# Altium footprint library Connectors - Terminal Block.PcbLib: 7 footprints
Each footprint in its own frame and in the unit in brackets; x right, y up, seen from the top. Pads: shape width x height; smd on the part's side, far side on the other; paste and mask are expansions set on the pad; w line width, h text height; cw(c..) or ccw(c..) is an arc to the next point about the centre after c.
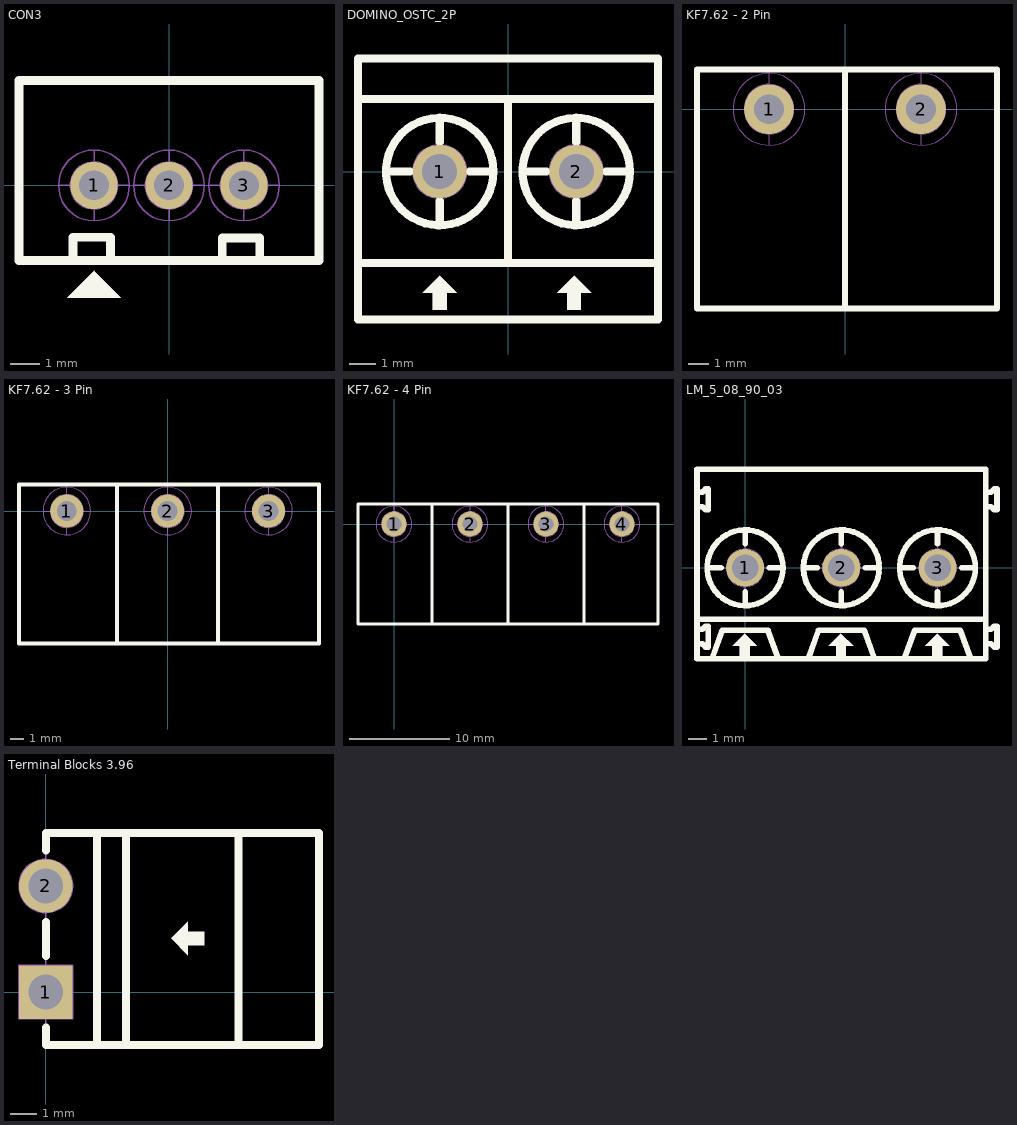
[diagram p0: the footprints below, top view; thin cyan lines are the x and y axes]

## CON3 [mm] "CON 3"
height 5.08
pads (3):
  round 1.6 hole 1 mask+0.1: 1(-2.54,0) 2(0,0) 3(2.54,0)
Top Overlay:
  region: -3.442,-3.797 -1.638,-3.797 -2.527,-2.908 -2.527,-2.883
  lines w0.3: -3.251,-2.515 -3.251,-1.753 -1.981,-1.753 -1.981,-2.515 ; 1.803,-2.54 1.803,-1.778 3.073,-1.778 3.073,-2.54 ; -5.08,-2.54 -5.08,3.556 5.08,3.556 5.08,0 5.08,-2.54 -5.08,-2.54
Top HCB:
  circle w0.05: c-2.54,0 r0.8
  circle w0.05: c-2.54,0 r1.2
  circle w0.05: c0,0 r0.8
  circle w0.05: c0,0 r1.2
  circle w0.05: c2.54,0 r0.8
  circle w0.05: c2.54,0 r1.2
  region: -3.442,-3.797 -1.638,-3.797 -2.527,-2.908 -2.527,-2.883
  lines w0.05: -3.74,0 -3.34,0 ; -3.251,-2.515 -3.251,-1.753 -1.981,-1.753 -1.981,-2.515 ; -2.54,-1.2 -2.54,-0.8 ; -2.54,0.8 -2.54,1.2 ; -1.74,0 -1.34,0 ; -1.2,0 -0.8,0 ; 0,-1.2 0,-0.8 ; 0,0.8 0,1.2 ; 0.8,0 1.2,0 ; 1.34,0 1.74,0 ; 1.803,-2.54 1.803,-1.778 3.073,-1.778 3.073,-2.54 ; 2.54,-1.2 2.54,-0.8 ; 2.54,0.8 2.54,1.2 ; 3.34,0 3.74,0 ; -5.08,-2.54 5.08,-2.54 5.08,0 5.08,3.556 -5.08,3.556 -5.08,-2.54
3D body "User Library-PW10_3.step": height 7, standoff -3.3, extent -5,-2.286 5,3.414

## DOMINO_OSTC_2P [mm] "15A PIN TO PIN 5.08MM ED2609-ND"
height 13.5
pads (2):
  round 2 hole 1.3 mask+0.1: 1(-2.54,0) 2(2.54,0)
Top Overlay:
  circle w0.3: c2.54,0 r2
  circle w0.3: c-2.54,0 r2
  region: -2.54,-3.871 -1.905,-4.506 -2.286,-4.506 -2.286,-5.141 -2.794,-5.141 -2.794,-4.506 -3.175,-4.506
  region: 2.46,-3.871 3.095,-4.506 2.714,-4.506 2.714,-5.141 2.206,-5.141 2.206,-4.506 1.825,-4.506
  lines w0.3: -5.58,-5.5 -5.58,4.2 ; -5.5,-5.5 5.5,-5.5 ; -5.5,-3.4 5.5,-3.4 ; -5.5,2.7 5.5,2.7 ; -5.5,4.2 5.5,4.2 ; -4.54,0 -3.64,0 ; -2.54,-2 -2.54,-1.1 ; -2.54,1.1 -2.54,2 ; -1.44,0 -0.54,0 ; 0,-3.4 0,2.7 ; 0.54,0 1.44,0 ; 2.5,-2 2.54,-2 2.54,-1.1 ; 2.54,1.1 2.54,2 ; 3.64,0 4.54,0 ; 5.58,-5.5 5.58,4.2
Top HCB:
  circle w0.05: c2.54,0 r1
  circle w0.05: c2.54,0 r2
  circle w0.05: c2.54,0 r2
  circle w0.05: c-2.54,0 r1
  circle w0.05: c-2.54,0 r2
  circle w0.05: c-2.54,0 r2
  region: 2.46,-3.871 3.095,-4.506 2.714,-4.506 2.714,-5.141 2.206,-5.141 2.206,-4.506 1.825,-4.506
  region: -2.54,-3.871 -1.905,-4.506 -2.286,-4.506 -2.286,-5.141 -2.794,-5.141 -2.794,-4.506 -3.175,-4.506
  lines w0.05: -5.5,-3.4 5.5,-3.4 ; -5.5,2.7 5.5,2.7 ; -4.54,0 -3.54,0 ; -2.54,-2 -2.54,-1 ; -2.54,1 -2.54,2 ; 0,-3.4 0,2.7 ; 0.54,0 1.54,0 ; 2.54,-2 2.54,-1 ; 2.54,1 2.54,2 ; -5.5,-5.5 5.5,-5.5 5.5,4.1 -5.5,4.1 -5.5,-5.5 ; -1.54,0 -0.54,0 -1.54,0 ; 3.54,0 4.54,0 3.54,0
3D body "STB01.step": height 12.5, standoff -4.4, extent -5.34,-5.247 0.34,3.753
3D body "STB01.step": height 12.5, standoff -4.4, extent -0.26,-5.247 5.42,3.753

## KF7.62 - 2 Pin [mm] "Barrier Terminal Block"
height 12.4
pads (2):
  round 2.5 hole 1.5 mask+0.1: 1(-3.81,0) 2(3.81,0)
Top Overlay:
  lines w0.3: 0,-10 0,2 ; -7.42,-10 7.62,-10 7.62,2 -7.42,2 -7.42,-10
Top HCB:
  circle w0.05: c-3.81,0 r1.8
  circle w0.05: c-3.81,0 r1.25
  circle w0.05: c3.81,0 r1.8
  circle w0.05: c3.81,0 r1.25
  lines w0.05: -5.61,0 -5.06,0 ; -3.81,-1.8 -3.81,-1.25 ; -3.81,1.25 -3.81,1.8 ; -2.56,0 -2.01,0 ; 0,-10 0,2 ; 2.01,0 2.56,0 ; 3.81,-1.8 3.81,-1.25 ; 3.81,1.25 3.81,1.8 ; 5.06,0 5.61,0 ; -7.42,-10 -7.42,2 7.62,2 7.62,-10 -7.42,-10
3D body "BR-76231C-02.stp": height 10.4, standoff -4, extent -7.62,-9.8 7.62,2.7

## KF7.62 - 3 Pin [mm] "Barrier Terminal Block"
height 12.4
pads (3):
  round 2.5 hole 1.5 mask+0.1: 1(-7.62,0) 2(0,0) 3(7.62,0)
Top Overlay:
  lines w0.3: -3.81,-10 -3.81,2 ; 3.81,-10 3.81,2 ; -11.23,-10 11.43,-10 11.43,2 -11.23,2 -11.23,-10
Top HCB:
  circle w0.05: c-7.62,0 r1.8
  circle w0.05: c-7.62,0 r1.25
  circle w0.05: c0,0 r1.8
  circle w0.05: c0,0 r1.25
  circle w0.05: c7.62,0 r1.8
  circle w0.05: c7.62,0 r1.25
  lines w0.05: -9.42,0 -8.87,0 ; -7.62,-1.8 -7.62,-1.25 ; -7.62,1.25 -7.62,1.8 ; -6.37,0 -5.82,0 ; -3.81,-10 -3.81,2 ; -1.8,0 -1.25,0 ; 0,-1.8 0,-1.25 ; 0,1.25 0,1.8 ; 1.25,0 1.8,0 ; 3.81,-10 3.81,2 ; 5.82,0 6.37,0 ; 7.62,-1.8 7.62,-1.25 ; 7.62,1.25 7.62,1.8 ; 8.87,0 9.42,0 ; -11.23,-10 11.43,-10 11.43,2 -11.23,2 -11.23,-10
3D body "BR-76231C-03.stp": height 10.4, standoff -4, extent -11.43,-9.9 11.43,2.6

## KF7.62 - 4 Pin [mm] "Barrier Terminal Block"
height 12.4
pads (4):
  round 2.5 hole 1.5 mask+0.1: 1(0,0) 2(7.62,0) 3(15.24,0) 4(22.86,0)
Top Overlay:
  lines w0.3: 3.81,-10 3.81,2 ; 11.43,-10 11.43,2 ; 19.05,-10 19.05,2 ; -3.61,-10 -3.61,2 26.47,2 26.47,-10 -3.61,-10
Top HCB:
  circle w0.05: c22.86,0 r1.25
  circle w0.05: c22.86,0 r1.8
  circle w0.05: c15.24,0 r1.25
  circle w0.05: c15.24,0 r1.8
  circle w0.05: c7.62,0 r1.25
  circle w0.05: c7.62,0 r1.8
  circle w0.05: c0,0 r1.25
  circle w0.05: c0,0 r1.8
  lines w0.05: -1.8,0 -1.25,0 ; 0,-1.8 0,-1.25 ; 0,1.25 0,1.8 ; 1.25,0 1.8,0 ; 3.81,-10 3.81,2 ; 5.82,0 6.37,0 ; 7.62,-1.8 7.62,-1.25 ; 7.62,1.25 7.62,1.8 ; 8.87,0 9.42,0 ; 11.43,-10 11.43,2 ; 13.44,0 13.99,0 ; 15.24,-1.8 15.24,-1.25 ; 15.24,1.25 15.24,1.8 ; 16.49,0 17.04,0 ; 19.05,-10 19.05,2 ; 21.06,0 21.61,0 ; 22.86,-1.8 22.86,-1.25 ; 22.86,1.25 22.86,1.8 ; 24.11,0 24.66,0 ; -3.61,-10 -3.61,2 26.47,2 26.47,-10 -3.61,-10
3D body "User Library-KF7_62 - 4P-1.STEP": height 12.56, standoff -6.14, extent -3.81,-10.35 26.67,1.65

## LM_5_08_90_03 [mm] "OMNIMATE Signal - Serie LM  LM 5.08/03/90 3.5"
height 13.8
pads (3):
  round 2 hole 1.4: 1(0,0) 2(5.08,0) 3(10.16,0)
Top Overlay:
  circle w0.3: c10.16,0 r2
  circle w0.3: c5.08,0 r2
  circle w0.3: c0,0 r2
  region: -0.018,-3.483 0.617,-4.118 0.236,-4.118 0.236,-4.753 -0.272,-4.753 -0.272,-4.118 -0.653,-4.118
  region: 5.063,-3.483 5.698,-4.118 5.317,-4.118 5.317,-4.753 4.809,-4.753 4.809,-4.118 4.428,-4.118
  region: 10.142,-3.483 10.777,-4.118 10.396,-4.118 10.396,-4.753 9.888,-4.753 9.888,-4.118 9.507,-4.118
  lines w0.3: -2.54,-4.01 -2.26,-4.01 -2.09,-4.18 -1.94,-4.18 -1.94,-3.08 -2.09,-3.08 -2.26,-3.25 -2.54,-3.25 ; -2.54,-2.719 12.7,-2.719 ; -2.54,3.23 -2.26,3.23 -2.09,3.06 -1.94,3.06 -1.94,4.16 -2.09,4.16 -2.26,3.99 -2.54,3.99 ; -2,0 -1.275,0 ; 0,-2 0,-1.275 ; 0,1.275 0,2 ; 1.275,0 2,0 ; 3.08,0 3.805,0 ; 5.08,-2 5.08,-1.275 ; 5.08,1.275 5.08,2 ; 6.355,0 7.08,0 ; 8.16,0 8.885,0 ; 10.16,-2 10.16,-1.275 ; 10.16,1.275 10.16,2 ; 11.435,0 12.16,0 ; 12.7,-4.8 12.7,-4.01 12.98,-4.01 13.15,-4.18 13.3,-4.18 13.3,-3.08 13.15,-3.08 12.98,-3.25 12.7,-3.25 12.7,3.23 12.98,3.23 13.15,3.06 13.3,3.06 13.3,4.16 13.15,4.16 12.98,3.99 12.7,3.99 12.7,5.2 ; 12.7,-4.8 12.7,5.2 ; 12.7,-4.8 -2.54,-4.8 -2.54,5.2 12.7,5.2 ; -1.75,-4.8 1.75,-4.8 1.204,-3.3 -1.204,-3.3 -1.75,-4.8 ; 3.33,-4.8 3.876,-3.3 6.284,-3.3 6.83,-4.8 3.33,-4.8 ; 8.41,-4.8 11.91,-4.8 11.364,-3.3 8.956,-3.3 8.41,-4.8
Top HCB:
  circle w0.05: c10.16,0 r1
  circle w0.05: c10.16,0 r2
  circle w0.05: c10.16,0 r2
  circle w0.05: c5.08,0 r1
  circle w0.05: c5.08,0 r2
  circle w0.05: c5.08,0 r2
  circle w0.05: c0,0 r1
  circle w0.05: c0,0 r2
  circle w0.05: c0,0 r2
  circle w0.05: c5.08,0 r2
  circle w0.05: c5.08,0 r2
  circle w0.05: c10.16,0 r2
  circle w0.05: c10.16,0 r2
  region: 5.063,-3.483 5.698,-4.118 5.317,-4.118 5.317,-4.753 4.809,-4.753 4.809,-4.118 4.428,-4.118
  region: 10.142,-3.483 10.777,-4.118 10.396,-4.118 10.396,-4.753 9.888,-4.753 9.888,-4.118 9.507,-4.118
  region: -0.018,-3.483 0.617,-4.118 0.236,-4.118 0.236,-4.753 -0.272,-4.753 -0.272,-4.118 -0.653,-4.118
  lines w0.05: -2.54,-4.01 -2.26,-4.01 -2.09,-4.18 -1.94,-4.18 -1.94,-3.08 -2.09,-3.08 -2.26,-3.25 -2.54,-3.25 ; -2.54,-2.719 12.7,-2.719 ; -2.54,3.23 -2.26,3.23 -2.09,3.06 -1.94,3.06 -1.94,4.16 -2.09,4.16 -2.26,3.99 -2.54,3.99 ; -2,0 -1,0 ; 0,-2 0,-1 ; 0,1 0,2 ; 3.98,0 3.08,0 4.08,0 ; 5.08,-1 5.08,-2 ; 5.08,1 5.08,2 5.08,1.1 ; 9.06,0 8.16,0 9.16,0 ; 10.16,-1 10.16,-2 ; 10.16,1 10.16,2 10.16,1.1 ; 5.08,-2 5.08,-1.1 5.08,-2 ; 7.08,0 6.08,0 7.08,0 ; 7.08,0 6.18,0 7.08,0 ; 10.16,-2 10.16,-1.1 10.16,-2 ; 12.16,0 11.16,0 12.16,0 ; 12.16,0 11.26,0 12.16,0 ; 12.7,-4.8 -2.54,-4.8 -2.54,5.2 12.7,5.2 ; 12.7,-4.8 12.7,5.2 ; 12.7,-4.8 12.7,-4.01 12.98,-4.01 13.15,-4.18 13.3,-4.18 13.3,-3.08 13.15,-3.08 12.98,-3.25 12.7,-3.25 12.7,3.23 12.98,3.23 13.15,3.06 13.3,3.06 13.3,4.16 13.15,4.16 12.98,3.99 12.7,3.99 12.7,5.2 ; -1.75,-4.8 -1.204,-3.3 1.204,-3.3 1.75,-4.8 -1.75,-4.8 ; 1,0 2,0 1,0 ; 3.33,-4.8 3.876,-3.3 6.284,-3.3 6.83,-4.8 3.33,-4.8 ; 8.41,-4.8 11.91,-4.8 11.364,-3.3 8.956,-3.3 8.41,-4.8
Mechanical 15:
  lines w0.1: 4.08,0.2 6.08,0.2 ; 5.08,-0.8 5.08,1.2
  lines w0.2: 12.7,-4.8 -2.54,-4.8 -2.54,5.2 12.7,5.2
3D body "LM_5.08_3_90_3.5_OR_1716090000.stp": height 13.81, standoff -3.49, extent -2.54,-4.8 13.3,5.2

## Terminal Blocks 3.96 [mm] "Terminal Blocks Pluggeble 3.96"
height 7.4
pads (2):
  rect 2x2 hole 1.3 paste+0.1: 1(0,0)
  round 2 hole 1.3 paste+0.1: 2(0,3.96)
Top Overlay:
  region: 5.925,1.755 5.925,2.255 5.3,2.255 5.3,2.63 4.675,2.005 5.3,1.38 5.3,1.755
  lines w0.3: 0,-1.322 0,-1.98 10.2,-1.98 10.2,5.94 0,5.94 0,5.282 ; 0,1.345 0,2.615 ; 1.905,-1.97 1.905,5.917 ; 3,-1.98 3,5.94 ; 7.2,-1.97 7.2,5.93
Top HCB:
  circle w0.05: c0,3.96 r1
  lines w0.05: 0,-1.98 0,-1 0,-1.98 ; 0,-1.98 10.2,-1.98 ; 0,-1.98 10.2,-1.98 ; 0,5.94 0,4.975 0,5.94 ; 0,5.94 10.2,5.94 ; 0,5.94 10.2,5.94 ; 10.2,-1.98 10.2,5.94 ; 10.2,-1.98 10.2,5.94 ; -1,-1 -1,1 1,1 1,-1 -1,-1 ; 0,1 0,2.95 0,1 ; 1.905,-1.97 1.905,5.663 1.905,5.917 1.905,-1.97 ; 3,-1.98 3,5.94 3,-1.98 ; 7.2,-1.97 7.2,5.93 7.2,-1.97
3D body "jack 3,96.STEP": height 7.5, standoff -3.2, extent -0.4,-2.02 9.6,5.98